# Altium footprint library QFN.PcbLib: 10 footprints
Each footprint in its own frame and in the unit in brackets; x right, y up, seen from the top. Pads: shape width x height; smd on the part's side, far side on the other; paste and mask are expansions set on the pad; w line width, h text height; cw(c..) or ccw(c..) is an arc to the next point about the centre after c.
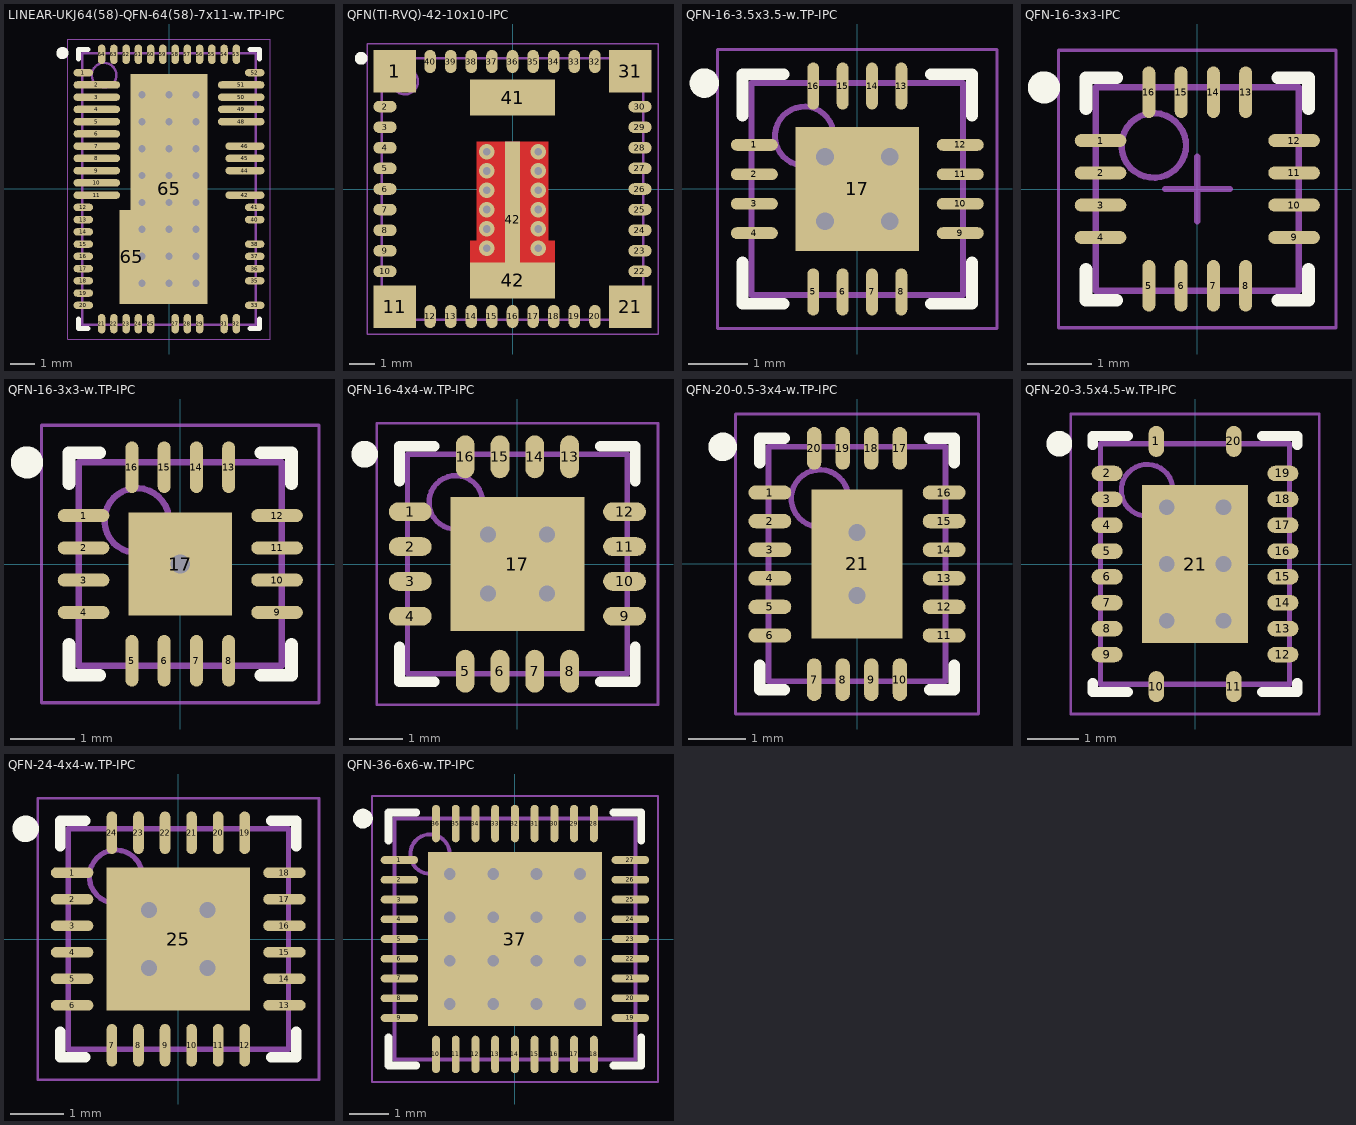
[diagram p0: the footprints below, top view; thin cyan lines are the x and y axes]

## LINEAR-UKJ64(58)-QFN-64(58)-7x11-w.TP-IPC [mm] "QFN, 64(58)-Leads, Body 11.00x7.00mm, Pitch 0.50mm, Thermal Pad 9.38x3.15mm, IPC Medium Density"
height 0.75
pads (60):
  oval 0.8x0.3 smd mask+0.05: 1(-3.5,4.75) 12(-3.5,-0.75) 13(-3.5,-1.25) 14(-3.5,-1.75) 15(-3.5,-2.25) 16(-3.5,-2.75) 17(-3.5,-3.25) 18(-3.5,-3.75) 19(-3.5,-4.25) 20(-3.5,-4.75) 33(3.5,-4.75) 35(3.5,-3.75) 36(3.5,-3.25) 37(3.5,-2.75) 38(3.5,-2.25) 40(3.5,-1.25) 41(3.5,-0.75) 52(3.5,4.75)
  oval 1.9x0.3 smd mask+0.05: 2(-2.95,4.25) 3(-2.95,3.75) 4(-2.95,3.25) 5(-2.95,2.75) 6(-2.95,2.25) 7(-2.95,1.75) 8(-2.95,1.25) 9(-2.95,0.75) 10(-2.95,0.25) 11(-2.95,-0.25) 48(2.95,2.75) 49(2.95,3.25) 50(2.95,3.75) 51(2.95,4.25)
  oval 0.3x0.8 smd mask+0.05: 21(-2.75,-5.5) 22(-2.25,-5.5) 23(-1.75,-5.5) 24(-1.25,-5.5) 25(-0.75,-5.5) 27(0.25,-5.5) 28(0.75,-5.5) 29(1.25,-5.5) 31(2.25,-5.5) 32(2.75,-5.5) 53(2.75,5.5) 54(2.25,5.5) 55(1.75,5.5) 56(1.25,5.5) 57(0.75,5.5) 58(0.25,5.5) 59(-0.25,5.5) 60(-0.75,5.5) 61(-1.25,5.5) 62(-1.75,5.5) 63(-2.25,5.5) 64(-2.75,5.5)
  oval 1.6x0.3 smd mask+0.05: 42(3.1,-0.25) 44(3.1,0.75) 45(3.1,1.25) 46(3.1,1.75)
  rect 1x3.83 smd mask+0.05: 65(-1.525,-2.775)
  rect 3.15x9.38 smd mask+0.05: 65(0,0)
via 1.1,-3.85 diameter 0.6 hole 0.3
via 0,-3.85 diameter 0.6 hole 0.3
via -1.1,-3.85 diameter 0.6 hole 0.3
via 1.1,-2.75 diameter 0.6 hole 0.3
via 0,-2.75 diameter 0.6 hole 0.3
via -1.1,-2.75 diameter 0.6 hole 0.3
via 1.1,-1.65 diameter 0.6 hole 0.3
via 0,-1.65 diameter 0.6 hole 0.3
via -1.1,-1.65 diameter 0.6 hole 0.3
via 1.1,-0.55 diameter 0.6 hole 0.3
via 0,-0.55 diameter 0.6 hole 0.3
via -1.1,-0.55 diameter 0.6 hole 0.3
via 1.1,0.55 diameter 0.6 hole 0.3
via 0,0.55 diameter 0.6 hole 0.3
via -1.1,0.55 diameter 0.6 hole 0.3
via 1.1,1.65 diameter 0.6 hole 0.3
via 0,1.65 diameter 0.6 hole 0.3
via -1.1,1.65 diameter 0.6 hole 0.3
via 1.1,2.75 diameter 0.6 hole 0.3
via 0,2.75 diameter 0.6 hole 0.3
via -1.1,2.75 diameter 0.6 hole 0.3
via 1.1,3.85 diameter 0.6 hole 0.3
via 0,3.85 diameter 0.6 hole 0.3
via -1.1,3.85 diameter 0.6 hole 0.3
Top Overlay:
  circle w0.25: c-4.35,5.55 r0.125
  lines w0.2: -3.7,-5.3 -3.7,-5.7 -3.3,-5.7 ; -3.7,5.3 -3.7,5.7 -3.3,5.7 ; 3.3,-5.7 3.7,-5.7 3.7,-5.3 ; 3.3,5.7 3.7,5.7 3.7,5.3
Mechanical 13:
  circle w0.1: c-2.65,4.65 r0.5
  lines w0.1: -3.55,-5.55 3.55,-5.55 3.55,5.55 -3.55,5.55 -3.55,-5.55
Mechanical 15:
  lines w0.05: -4.125,-6.125 4.125,-6.125 4.125,6.125 -4.125,6.125 -4.125,-6.125
  lines w0.1: -0.5,0 0.5,0 ; 0,-0.5 0,0.5
3D body: height 0.75, standoff 0.1, extent -3.55,-5.55 3.55,5.55

## QFN(TI-RVQ)-42-10x10-IPC [mm] "QFN(TI-RVQ), 42-Leads, Body 10.00x10.00mm, Pitch 0.80mm, IPC Medium Density"
height 4.4
pads (43):
  rect 1.65x1.65 smd: 1(-4.575,4.575) 11(-4.575,-4.575) 21(4.575,-4.575) 31(4.575,4.575)
  oval 0.9x0.45 smd: 2(-4.95,3.2) 3(-4.95,2.4) 4(-4.95,1.6) 5(-4.95,0.8) 6(-4.95,0) 7(-4.95,-0.8) 8(-4.95,-1.6) 9(-4.95,-2.4) 10(-4.95,-3.2) 22(4.95,-3.2) 23(4.95,-2.4) 24(4.95,-1.6) 25(4.95,-0.8) 26(4.95,0) 27(4.95,0.8) 28(4.95,1.6) 29(4.95,2.4) 30(4.95,3.2)
  oval 0.45x0.9 smd: 12(-3.2,-4.95) 13(-2.4,-4.95) 14(-1.6,-4.95) 15(-0.8,-4.95) 16(0,-4.95) 17(0.8,-4.95) 18(1.6,-4.95) 19(2.4,-4.95) 20(3.2,-4.95) 32(3.2,4.95) 33(2.4,4.95) 34(1.6,4.95) 35(0.8,4.95) 36(0,4.95) 37(-0.8,4.95) 38(-1.6,4.95) 39(-2.4,4.95) 40(-3.2,4.95)
  rect 3.3x1.4 smd: 41(0,3.55) 42(0,-3.55)
  rect 0.6x6.1 smd: 42(0,-1.2)
via -1,-2.3 diameter 0.6 hole 0.3
via -1,-1.55 diameter 0.6 hole 0.3
via -1,-0.8 diameter 0.6 hole 0.3
via -1,-0.05 diameter 0.6 hole 0.3
via -1,0.7 diameter 0.6 hole 0.3
via -1,1.45 diameter 0.6 hole 0.3
via 1,-1.55 diameter 0.6 hole 0.3
via 1,-2.3 diameter 0.6 hole 0.3
via 1,-0.8 diameter 0.6 hole 0.3
via 1,-0.05 diameter 0.6 hole 0.3
via 1,0.7 diameter 0.6 hole 0.3
via 1,1.45 diameter 0.6 hole 0.3
Top Layer:
  rectangle: -1.65,-3 1.65,-2
  rectangle: -1.4,-2.4 1.4,1.85
Top Overlay:
  circle w0.25: c-5.875,5.075 r0.125
Mechanical 13:
  circle w0.1: c-4.175,4.175 r0.5
  lines w0.1: -5.075,-5.075 5.075,-5.075 5.075,5.075 -5.075,5.075 -5.075,-5.075
Mechanical 15:
  lines w0.05: -5.65,-5.65 5.65,-5.65 5.65,5.65 -5.65,5.65 -5.65,-5.65
  lines w0.1: -0.5,0 0.5,0 ; 0,-0.5 0,0.5
3D body: height 4.4, standoff 0.1, extent -5.075,-5.075 5.075,5.075

## QFN-16-3.5x3.5-w.TP-IPC [mm] "QFN, 16-Leads, Body 3.50x3.50mm, Pitch 0.50mm, Thermal Pad 2.14x2.14mm, IPC Medium Density"
height 1
pads (17):
  oval 0.8x0.2 smd: 1(-1.75,0.75) 2(-1.75,0.25) 3(-1.75,-0.25) 4(-1.75,-0.75) 9(1.75,-0.75) 10(1.75,-0.25) 11(1.75,0.25) 12(1.75,0.75)
  oval 0.2x0.8 smd: 5(-0.75,-1.75) 6(-0.25,-1.75) 7(0.25,-1.75) 8(0.75,-1.75) 13(0.75,1.75) 14(0.25,1.75) 15(-0.25,1.75) 16(-0.75,1.75)
  rect 2.1x2.1 smd: 17(0,0)
via 0.55,-0.55 diameter 0.6 hole 0.3
via -0.55,-0.55 diameter 0.6 hole 0.3
via 0.55,0.55 diameter 0.6 hole 0.3
via -0.55,0.55 diameter 0.6 hole 0.3
Top Overlay:
  circle w0.25: c-2.6,1.8 r0.125
  lines w0.2: -1.95,-1.25 -1.95,-1.95 -1.25,-1.95 ; -1.95,1.25 -1.95,1.95 -1.25,1.95 ; 1.25,-1.95 1.95,-1.95 1.95,-1.25 ; 1.25,1.95 1.95,1.95 1.95,1.25
Mechanical 13:
  circle w0.1: c-0.9,0.9 r0.5
  lines w0.1: -1.8,-1.8 1.8,-1.8 1.8,1.8 -1.8,1.8 -1.8,-1.8
Mechanical 15:
  lines w0.05: -2.375,-2.375 2.375,-2.375 2.375,2.375 -2.375,2.375 -2.375,-2.375
  lines w0.1: -0.5,0 0.5,0 ; 0,-0.5 0,0.5
3D body: height 1, standoff 0.1, extent -1.8,-1.8 1.8,1.8

## QFN-16-3x3-IPC [mm] "QFN, 16-Leads, Body 3.00x3.00mm, Pitch 0.50mm, IPC Medium Density"
height 1
pads (16):
  oval 0.8x0.2 smd: 1(-1.5,0.75) 2(-1.5,0.25) 3(-1.5,-0.25) 4(-1.5,-0.75) 9(1.5,-0.75) 10(1.5,-0.25) 11(1.5,0.25) 12(1.5,0.75)
  oval 0.2x0.8 smd: 5(-0.75,-1.5) 6(-0.25,-1.5) 7(0.25,-1.5) 8(0.75,-1.5) 13(0.75,1.5) 14(0.25,1.5) 15(-0.25,1.5) 16(-0.75,1.5)
Top Overlay:
  circle w0.25: c-2.375,1.575 r0.125
  lines w0.2: -1.725,-1.25 -1.725,-1.725 -1.25,-1.725 ; -1.725,1.25 -1.725,1.725 -1.25,1.725 ; 1.25,-1.725 1.725,-1.725 1.725,-1.25 ; 1.25,1.725 1.725,1.725 1.725,1.25
Mechanical 13:
  circle w0.1: c-0.675,0.675 r0.5
  lines w0.1: -1.575,-1.575 -1.575,1.575 1.575,1.575 1.575,-1.575 -1.575,-1.575
Mechanical 15:
  lines w0.05: -2.15,-2.15 -2.15,2.15 2.15,2.15 2.15,-2.15 -2.15,-2.15
  lines w0.1: -0.5,0 0.5,0 ; 0,-0.5 0,0.5
3D body: height 1, standoff 0.05, extent -1.575,-1.575 1.575,1.575

## QFN-16-3x3-w.TP-IPC [mm] "QFN, 16-Leads, Body 3.00x3.00mm, Pitch 0.50mm, Thermal Pad 1.60x1.60mm, IPC Medium Density"
height 1
pads (17):
  oval 0.8x0.2 smd: 1(-1.5,0.75) 2(-1.5,0.25) 3(-1.5,-0.25) 4(-1.5,-0.75) 9(1.5,-0.75) 10(1.5,-0.25) 11(1.5,0.25) 12(1.5,0.75)
  oval 0.2x0.8 smd: 5(-0.75,-1.5) 6(-0.25,-1.5) 7(0.25,-1.5) 8(0.75,-1.5) 13(0.75,1.5) 14(0.25,1.5) 15(-0.25,1.5) 16(-0.75,1.5)
  rect 1.6x1.6 smd: 17(0,0)
via 0,0 diameter 0.6 hole 0.3
Top Overlay:
  circle w0.25: c-2.375,1.575 r0.125
  lines w0.2: -1.725,-1.25 -1.725,-1.725 -1.25,-1.725 ; -1.725,1.25 -1.725,1.725 -1.25,1.725 ; 1.25,-1.725 1.725,-1.725 1.725,-1.25 ; 1.25,1.725 1.725,1.725 1.725,1.25
Mechanical 13:
  circle w0.1: c-0.675,0.675 r0.5
  lines w0.1: -1.575,-1.575 1.575,-1.575 1.575,1.575 -1.575,1.575 -1.575,-1.575
Mechanical 15:
  lines w0.05: -2.15,-2.15 2.15,-2.15 2.15,2.15 -2.15,2.15 -2.15,-2.15
  lines w0.1: -0.5,0 0.5,0 ; 0,-0.5 0,0.5
3D body: height 1, standoff 0.05, extent -1.575,-1.575 1.575,1.575

## QFN-16-4x4-w.TP-IPC [mm] "QFN, 16-Leads, Body 4.00x4.00mm, Pitch 0.65mm, Thermal Pad 2.70x2.70mm, IPC Medium Density"
height 1
pads (17):
  oval 0.8x0.35 smd: 1(-2,0.975) 2(-2,0.325) 3(-2,-0.325) 4(-2,-0.975) 9(2,-0.975) 10(2,-0.325) 11(2,0.325) 12(2,0.975)
  oval 0.35x0.8 smd: 5(-0.975,-2) 6(-0.325,-2) 7(0.325,-2) 8(0.975,-2) 13(0.975,2) 14(0.325,2) 15(-0.325,2) 16(-0.975,2)
  rect 2.5x2.5 smd: 17(0,0)
via -0.55,0.55 diameter 0.6 hole 0.3
via 0.55,0.55 diameter 0.6 hole 0.3
via -0.55,-0.55 diameter 0.6 hole 0.3
via 0.55,-0.55 diameter 0.6 hole 0.3
Top Overlay:
  circle w0.25: c-2.85,2.05 r0.125
  lines w0.2: -2.2,-1.55 -2.2,-2.2 -1.55,-2.2 ; -2.2,1.55 -2.2,2.2 -1.55,2.2 ; 1.55,-2.2 2.2,-2.2 2.2,-1.55 ; 1.55,2.2 2.2,2.2 2.2,1.55
Mechanical 13:
  circle w0.1: c-1.15,1.15 r0.5
  lines w0.1: -2.05,-2.05 -2.05,2.05 2.05,2.05 2.05,-2.05 -2.05,-2.05
Mechanical 15:
  lines w0.05: -2.625,-2.625 -2.625,2.625 2.625,2.625 2.625,-2.625 -2.625,-2.625
  lines w0.1: -0.5,0 0.5,0 ; 0,-0.5 0,0.5
3D body: height 1, standoff 0.1, extent -2.05,-2.05 2.05,2.05

## QFN-20-0.5-3x4-w.TP-IPC [mm] "QFN, 20-Leads, Body 4.00x3.00mm, Pitch 0.50mm, Thermal Pad 2.60x1.60mm, IPC Medium Density"
height 0.8
pads (21):
  oval 0.75x0.25 smd: 1(-1.525,1.25) 2(-1.525,0.75) 3(-1.525,0.25) 4(-1.525,-0.25) 5(-1.525,-0.75) 6(-1.525,-1.25) 11(1.525,-1.25) 12(1.525,-0.75) 13(1.525,-0.25) 14(1.525,0.25) 15(1.525,0.75) 16(1.525,1.25)
  oval 0.25x0.75 smd: 7(-0.75,-2.025) 8(-0.25,-2.025) 9(0.25,-2.025) 10(0.75,-2.025) 17(0.75,2.025) 18(0.25,2.025) 19(-0.25,2.025) 20(-0.75,2.025)
  rect 1.6x2.6 smd: 21(0,0)
via 0,0.55 diameter 0.6 hole 0.3
via 0,-0.55 diameter 0.6 hole 0.3
Top Overlay:
  circle w0.25: c-2.35,2.05 r0.125
  lines w0.2: -1.7,-1.775 -1.7,-2.2 -1.275,-2.2 ; -1.7,1.775 -1.7,2.2 -1.275,2.2 ; 1.275,-2.2 1.7,-2.2 1.7,-1.775 ; 1.275,2.2 1.7,2.2 1.7,1.775
Mechanical 13:
  circle w0.1: c-0.65,1.15 r0.5
  lines w0.1: -1.55,-2.05 -1.55,2.05 1.55,2.05 1.55,-2.05 -1.55,-2.05
Mechanical 15:
  lines w0.05: -2.125,-2.625 -2.125,2.625 2.125,2.625 2.125,-2.625 -2.125,-2.625
  lines w0.1: -0.5,0 0.5,0 ; 0,-0.5 0,0.5
3D body: height 0.8, standoff 0.1, extent -1.55,-2.05 1.55,2.05

## QFN-20-3.5x4.5-w.TP-IPC [mm] "QFN, 20-Leads, Body 4.50x3.50mm, Pitch 0.50mm/1.50mm, Thermal Pad 3.05x2.05mm, IPC Medium Density"
height 1
pads (21):
  oval 0.3x0.6 smd: 1(-0.75,2.37) 10(-0.75,-2.37) 11(0.75,-2.37) 20(0.75,2.37)
  oval 0.6x0.3 smd: 2(-1.7,1.75) 3(-1.7,1.25) 4(-1.7,0.75) 5(-1.7,0.25) 6(-1.7,-0.25) 7(-1.7,-0.75) 8(-1.7,-1.25) 9(-1.7,-1.75) 12(1.7,-1.75) 13(1.7,-1.25) 14(1.7,-0.75) 15(1.7,-0.25) 16(1.7,0.25) 17(1.7,0.75) 18(1.7,1.25) 19(1.7,1.75)
  rect 2.05x3.05 smd: 21(0,0)
via -0.55,1.1 diameter 0.6 hole 0.3
via 0.55,1.1 diameter 0.6 hole 0.3
via -0.55,0 diameter 0.6 hole 0.3
via 0.55,0 diameter 0.6 hole 0.3
via -0.55,-1.1 diameter 0.6 hole 0.3
via 0.55,-1.1 diameter 0.6 hole 0.3
Top Overlay:
  circle w0.25: c-2.625,2.325 r0.125
  lines w0.2: -1.975,-2.3 -1.975,-2.475 -1.3,-2.475 ; -1.975,2.3 -1.975,2.475 -1.3,2.475 ; 1.3,-2.475 1.975,-2.475 1.975,-2.3 ; 1.3,2.475 1.975,2.475 1.975,2.3
Mechanical 13:
  circle w0.1: c-0.925,1.425 r0.5
  lines w0.1: -1.825,-2.325 -1.825,2.325 1.825,2.325 1.825,-2.325 -1.825,-2.325
Mechanical 15:
  lines w0.05: -2.4,-2.9 -2.4,2.9 2.4,2.9 2.4,-2.9 -2.4,-2.9
  lines w0.1: -0.5,0 0.5,0 ; 0,-0.5 0,0.5
3D body: height 1, standoff 0.1, extent -1.825,-2.325 1.825,2.325

## QFN-24-4x4-w.TP-IPC [mm] "QFN, 24-Leads, Body 4.00x4.00mm, Pitch 0.50mm, Thermal Pad 2.70x2.70mm, IPC Medium Density"
height 1
pads (25):
  oval 0.8x0.2 smd: 1(-2,1.25) 2(-2,0.75) 3(-2,0.25) 4(-2,-0.25) 5(-2,-0.75) 6(-2,-1.25) 13(2,-1.25) 14(2,-0.75) 15(2,-0.25) 16(2,0.25) 17(2,0.75) 18(2,1.25)
  oval 0.2x0.8 smd: 7(-1.25,-2) 8(-0.75,-2) 9(-0.25,-2) 10(0.25,-2) 11(0.75,-2) 12(1.25,-2) 19(1.25,2) 20(0.75,2) 21(0.25,2) 22(-0.25,2) 23(-0.75,2) 24(-1.25,2)
  rect 2.7x2.7 smd: 25(0,0)
via -0.55,0.55 diameter 0.6 hole 0.3
via 0.55,0.55 diameter 0.6 hole 0.3
via -0.55,-0.55 diameter 0.6 hole 0.3
via 0.55,-0.55 diameter 0.6 hole 0.3
Top Overlay:
  circle w0.25: c-2.875,2.075 r0.125
  lines w0.2: -2.225,-1.75 -2.225,-2.225 -1.75,-2.225 ; -2.225,1.75 -2.225,2.225 -1.75,2.225 ; 1.75,-2.225 2.225,-2.225 2.225,-1.75 ; 1.75,2.225 2.225,2.225 2.225,1.75
Mechanical 13:
  circle w0.1: c-1.175,1.175 r0.5
  lines w0.1: -2.075,-2.075 -2.075,2.075 2.075,2.075 2.075,-2.075 -2.075,-2.075
Mechanical 15:
  lines w0.05: -2.65,-2.65 -2.65,2.65 2.65,2.65 2.65,-2.65 -2.65,-2.65
  lines w0.1: -0.5,0 0.5,0 ; 0,-0.5 0,0.5
3D body: height 1, standoff 0.05, extent -2.075,-2.075 2.075,2.075

## QFN-36-6x6-w.TP-IPC [mm] "QFN, 36-Leads, Body 6.00x6.00mm, Pitch 0.50mm, Thermal Pad 4.40x4.40mm, IPC Medium Density"
height 1
pads (37):
  oval 0.95x0.2 smd: 1(-2.925,2) 2(-2.925,1.5) 3(-2.925,1) 4(-2.925,0.5) 5(-2.925,0) 6(-2.925,-0.5) 7(-2.925,-1) 8(-2.925,-1.5) 9(-2.925,-2) 19(2.925,-2) 20(2.925,-1.5) 21(2.925,-1) 22(2.925,-0.5) 23(2.925,0) 24(2.925,0.5) 25(2.925,1) 26(2.925,1.5) 27(2.925,2)
  oval 0.2x0.95 smd: 10(-2,-2.925) 11(-1.5,-2.925) 12(-1,-2.925) 13(-0.5,-2.925) 14(0,-2.925) 15(0.5,-2.925) 16(1,-2.925) 17(1.5,-2.925) 18(2,-2.925) 28(2,2.925) 29(1.5,2.925) 30(1,2.925) 31(0.5,2.925) 32(0,2.925) 33(-0.5,2.925) 34(-1,2.925) 35(-1.5,2.925) 36(-2,2.925)
  rect 4.4x4.4 smd: 37(0,0)
via 1.65,-1.65 diameter 0.6 hole 0.3
via 0.55,-1.65 diameter 0.6 hole 0.3
via -0.55,-1.65 diameter 0.6 hole 0.3
via -1.65,-1.65 diameter 0.6 hole 0.3
via 1.65,-0.55 diameter 0.6 hole 0.3
via 0.55,-0.55 diameter 0.6 hole 0.3
via -0.55,-0.55 diameter 0.6 hole 0.3
via -1.65,-0.55 diameter 0.6 hole 0.3
via 1.65,0.55 diameter 0.6 hole 0.3
via 0.55,0.55 diameter 0.6 hole 0.3
via -0.55,0.55 diameter 0.6 hole 0.3
via -1.65,0.55 diameter 0.6 hole 0.3
via 1.65,1.65 diameter 0.6 hole 0.3
via 0.55,1.65 diameter 0.6 hole 0.3
via -0.55,1.65 diameter 0.6 hole 0.3
via -1.65,1.65 diameter 0.6 hole 0.3
Top Overlay:
  circle w0.25: c-3.85,3.05 r0.125
  lines w0.2: -3.2,-2.5 -3.2,-3.2 -2.5,-3.2 ; -3.2,2.5 -3.2,3.2 -2.5,3.2 ; 2.5,-3.2 3.2,-3.2 3.2,-2.5 ; 2.5,3.2 3.2,3.2 3.2,2.5
Mechanical 13:
  circle w0.1: c-2.15,2.15 r0.5
  lines w0.1: -3.05,-3.05 3.05,-3.05 3.05,3.05 -3.05,3.05 -3.05,-3.05
Mechanical 15:
  lines w0.05: -3.625,-3.625 3.625,-3.625 3.625,3.625 -3.625,3.625 -3.625,-3.625
  lines w0.1: -0.5,0 0.5,0 ; 0,-0.5 0,0.5
3D body: height 1, standoff 0.05, extent -3.05,-3.05 3.05,3.05